# Altium schematic symbol library power.SchLib: 5 symbols
Pins are listed as number, name and electrical type; pins without a type are passive.

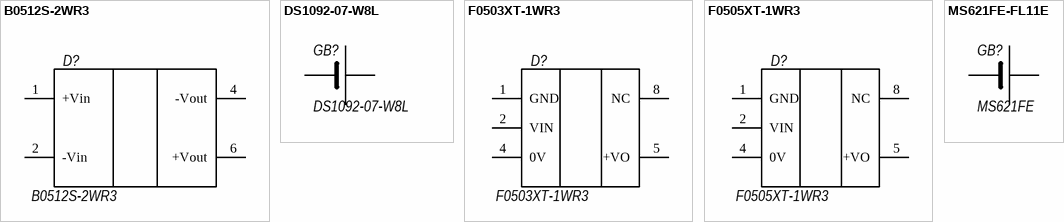
[diagram p0: symbols B0512S-2WR3 to MS621FE-FL11E]

## B0512S-2WR3
designator D?
2W isolated DC-DC converter Fixed input voltage, unregulated single output 19.5 x 7.0 x 10.0mm; Manufacturer: Mornsun; BOM1: 19.5 x 7.0 x 10.0mm B0512S-2WR3; ValueBOM: B0512S-2WR3   Mornsun; Value: B0512S-2WR3; Part Number: B0512S-2WR3; Package: 19.5 x 7.0 x 10.0mm; BOM2: 19.5 x 7.0 x 10.0mm B0512S-2WR3
footprint B0512S-2WR3
pins: 1 +Vin, 2 -Vin, 4 -Vout, 6 +Vout

## DS1092-07-W8L
designator GB?
DS1092-07-W8L, Крепеж горизонтальный к батарее 2032; Manufacturer: Connfly; BOM1: SMD 16 x 28.4 mm DS1092-07-W8L; ValueBOM: DS1092-07-W8L   Connfly; Part Number: DS1092-07-W8L; Package: SMD 16 x 28.4 mm; BOM2: SMD 16 x 28.4 mm DS1092-07-W8L; Value: DS1092-07-W8L
footprint DS1092-07-W8L
pins: N -, P +

## F0503XT-1WR3
designator D?
1W isolated DC-DC converter Fixed input voltage, unregulated single output 13.20 x 11.40 x 7.25 mm; Manufacturer: Mornsun; BOM1: SMD-8 F0503XT-1WR3; ValueBOM: F0503XT-1WR3   Mornsun; Value: F0503XT-1WR3; Part Number: F0503XT-1WR3; Package: SMD-8; BOM2: SMD-8 F0503XT-1WR3
footprint F0503XT1WR3
pins: 1 GND, 2 VIN, 4 0V, 5 +VO, 8 NC

## F0505XT-1WR3
designator D?
1W isolated DC-DC converter Fixed input voltage, unregulated single output 13.20 x 11.40 x 7.25 mm; Manufacturer: Mornsun; BOM1: SMD-8 F0505XT-1WR3; ValueBOM: F0505XT-1WR3   Mornsun; Value: F0505XT-1WR3; Part Number: F0505XT-1WR3; Package: SMD-8; BOM2: SMD-8 F0505XT-1WR3
footprint F0503XT1WR3
pins: 1 GND, 2 VIN, 4 0V, 5 +VO, 8 NC

## MS621FE-FL11E
designator GB?, comment MS621FE
MS Lithium Rechargeable Battery MS621FE; Part Number: MS621FE-FL11E; Manufacturer: Seiko; BOM1: SMD 6.8 x 2.1 mm MS621FE-FL11E; ValueBOM: MS621FE-FL11E   Seiko; Package: SMD 6.8 x 2.1 mm; BOM2: SMD 6.8 x 2.1 mm MS621FE-FL11E; Value: MS621FE
footprint MS621TFL11E
pins: 1 +, 2 -